# Altium footprint library KTD500B157M99A0B00.PcbLib: 1 footprints
Each footprint in its own frame and in the unit in brackets; x right, y up, seen from the top. Pads: shape width x height; smd on the part's side, far side on the other; paste and mask are expansions set on the pad; w line width, h text height; cw(c..) or ccw(c..) is an arc to the next point about the centre after c.
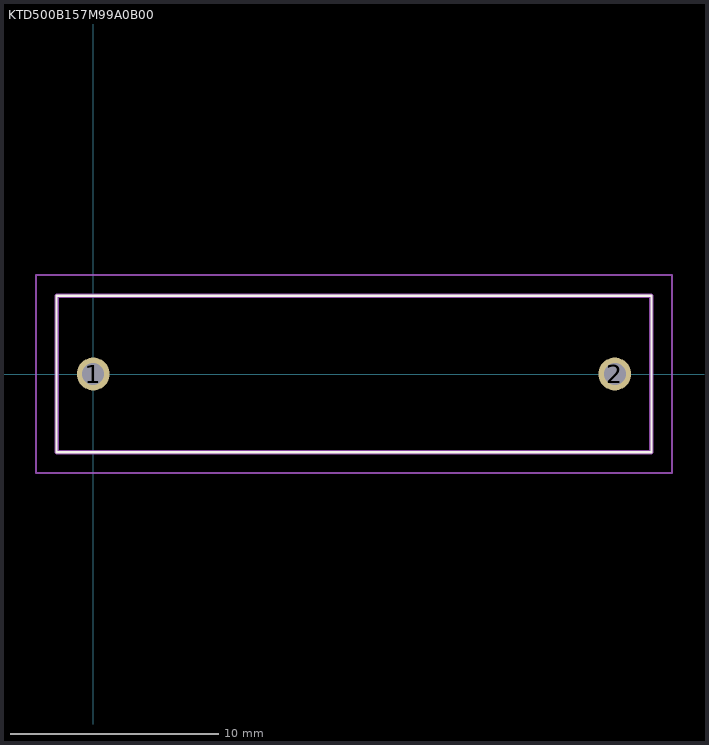
[diagram p0: the footprint, top view; thin cyan lines are the x and y axes]

## KTD500B157M99A0B00 [mm]
pads (2):
  round 1.575 hole 1.05: 1(0,0) 2(25,0)
Top Overlay:
  lines w0.1: -1.75,-3.75 26.75,-3.75 26.75,3.75 -1.75,3.75 -1.75,-3.75
Mechanical 15:
  lines w0.2: -1.75,-3.75 26.75,-3.75 26.75,3.75 -1.75,3.75 -1.75,-3.75
Mechanical 20:
  lines w0.1: -2.75,-4.75 27.75,-4.75 27.75,4.75 -2.75,4.75 -2.75,-4.75